# EAGLE library part AD7414 (library bbauv)
±0.5°C Accurate, 10-Bit Digital Temperature Sensors in SOT-23 The AD7414/AD7415 are complete temperature monitoring systems in 6-lead and 5-lead SOT-23 packages. They contain a band gap temperature sensor and a 10-bit ADC to monitor and digitize the temperature reading to a resolution of 0.25°C.
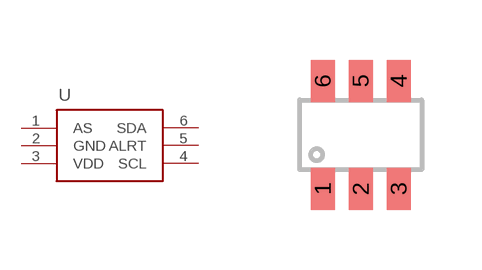
[diagram p6: symbol with the pads of SOT23-6; footprint SOT23-6]

Designator prefix -

## AD7414  [SOT23-6]
1  AS
2  GND
3  VDD
4  SCL
5  ALRT
6  SDA

## Footprint SOT23-6 (pad centres in mm)
smd 0.6 x 1.05: 1 -0.95,-1.35; 2 0,-1.35; 3 0.95,-1.35; 4 0.95,1.35; 5 0,1.35; 6 -0.95,1.35